# EAGLE library part MCU-ATTINY13A (library EL_Doorsign)
8-bit Microcontroller with 1K Bytes In-System Programmable Flash
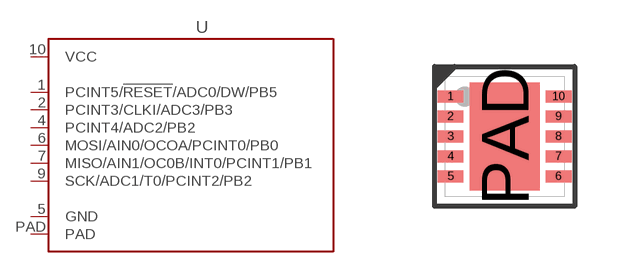
[diagram p0: symbol with the pads of MLF10; footprint MLF10]

Designator prefix U

## MCU-ATTINY13A (MFG: Atmel; MPN: ATTINY13A-MMFR; PRICE: 1.28; VENDOR: DIGIKEY; VPN: ATTINY13A-MMFRCT-ND)  [MLF10]
1  PCINT5/!RESET!/ADC0/DW/PB5  pas
2  PCINT3/CLKI/ADC3/PB3  pas
4  PCINT4/ADC2/PB2  pas
5  GND  pas
6  MOSI/AIN0/OCOA/PCINT0/PB0  pas
7  MISO/AIN1/OC0B/INT0/PCINT1/PB1  pas
9  SCK/ADC1/T0/PCINT2/PB2  pas
10  VCC  pas
PAD  PAD  pas

## Footprint MLF10 (pad centres in mm)
Micro Leadframe package 10 pin MO-229C VEED-5
smd 0.65 x 0.3: 1 -1.35,1; 2 -1.35,0.5; 3 -1.35,0; 4 -1.35,-0.5; 5 -1.35,-1; 6 1.35,-1; 7 1.35,-0.5; 8 1.35,0; 9 1.35,0.5; 10 1.35,1
smd 1.75 x 2.7: PAD 0,0